# Altium footprint library Altium-IC.PcbLib: 56 footprints (part 1 of 4)
Each footprint in its own frame and in the unit in brackets; x right, y up, seen from the top. Pads: shape width x height; smd on the part's side, far side on the other; paste and mask are expansions set on the pad; w line width, h text height; cw(c..) or ccw(c..) is an arc to the next point about the centre after c.
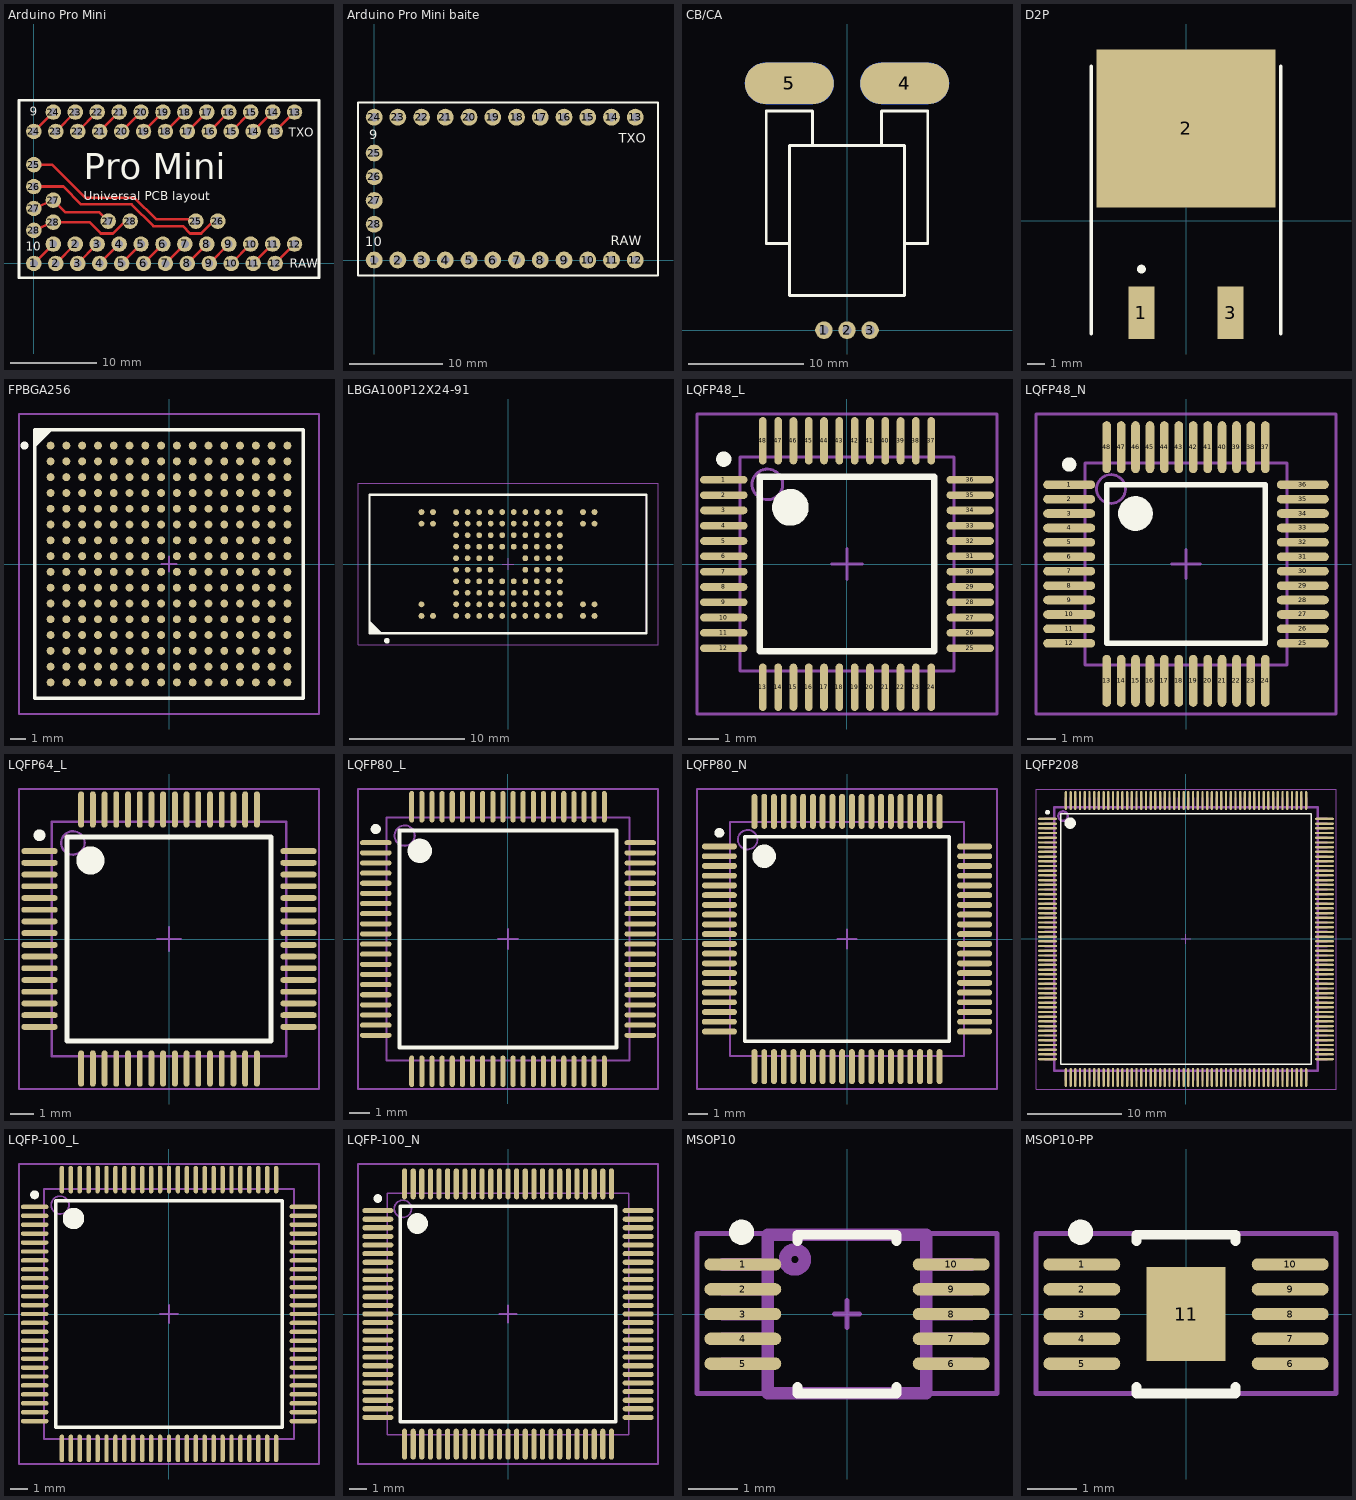
[diagram p0: the footprints below, top view; thin cyan lines are the x and y axes]

## Arduino Pro Mini [mm]
pads (58):
  round 1.8 hole 0.9: 1(0,0) 1(2.25,2.25) 2(2.54,0) 2(4.79,2.25) 3(5.08,0) 3(7.33,2.25) 4(7.62,0) 4(9.87,2.25) 5(10.16,0) 5(12.41,2.25) 6(12.7,0) 6(14.95,2.25) 7(15.24,0) 7(17.49,2.25) 8(17.78,0) 8(20.03,2.25) 9(20.32,0) 9(22.57,2.25) 10(22.86,0) 10(25.11,2.25) 11(25.4,0) 11(27.65,2.25) 12(27.94,0) 12(30.19,2.25) 13(27.94,15.29) 13(30.19,17.54) 14(25.4,15.29) 14(27.65,17.54) 15(22.86,15.29) 15(25.11,17.54) 16(20.32,15.29) 16(22.57,17.54) 17(17.78,15.29) 17(20.03,17.54) 18(15.24,15.29) 18(17.49,17.54) 19(12.7,15.29) 19(14.95,17.54) 20(10.16,15.29) 20(12.41,17.54) 21(7.62,15.29) 21(9.87,17.54) 22(5.08,15.29) 22(7.33,17.54) 23(2.54,15.29) 23(4.79,17.54) 24(0,15.29) 24(2.25,17.54) 25(0,11.45) 25(18.76,4.91) 26(0,8.91) 26(21.3,4.91) 27(0,6.37) 27(2.25,7.33) 27(8.6,4.91) 28(0,3.83) 28(2.25,4.79) 28(11.14,4.91)
Top Layer:
  lines w0.3: 0,0 2.25,2.25 ; 0,3.83 2.25,4.79 6.435,4.79 7.75,3.475 9.15,3.475 10.585,4.91 11.14,4.91 ; 0,6.37 2.25,7.33 3.63,5.95 7.56,5.95 8.6,4.91 ; 0,8.91 3.415,8.91 5.475,6.85 11.325,6.85 13.849,4.326 17.109,4.326 17.249,4.326 18.1,3.475 19.375,3.475 20.81,4.91 21.3,4.91 ; 0,11.45 2.1,11.45 5.953,7.597 11.678,7.597 14.15,5.125 18.545,5.125 18.76,4.91 ; 0,15.29 2.25,17.54 ; 2.54,0 4.79,2.25 ; 2.54,15.29 4.79,17.54 ; 5.08,0 7.33,2.25 ; 5.08,15.29 7.33,17.54 ; 7.62,0 9.87,2.25 ; 7.62,15.29 9.87,17.54 ; 10.16,0 12.41,2.25 ; 10.16,15.29 12.41,17.54 ; 12.7,0 14.95,2.25 ; 12.7,15.29 14.95,17.54 ; 15.24,0 17.49,2.25 ; 15.24,15.29 17.49,17.54 ; 17.78,0 20.03,2.25 ; 17.78,15.29 20.03,17.54 ; 20.32,0 22.57,2.25 ; 20.32,15.29 22.57,17.54 ; 22.86,0 25.11,2.25 ; 22.86,15.29 25.11,17.54 ; 25.4,0 27.65,2.25 ; 25.4,15.29 27.65,17.54 ; 27.94,0 30.19,2.25 ; 27.94,15.29 30.19,17.54
Top Overlay:
  lines w0.3: -1.725,-1.675 -1.725,18.925 33.025,18.925 33.025,-1.675 -1.725,-1.675
  text "Universal PCB layout" at 5.8,7.325 h1
  text "TXO" at 29.5,14.675 h1
  text "9" at -0.475,17.125 h1
  text "Pro Mini" at 5.8,9.75 h3
  text "RAW" at 29.625,-0.525 h1
  text "10" at -0.925,1.475 h1
3D body: height 15, standoff 0.5, extent -1.65,-1.675 33,18.825

## Arduino Pro Mini baite [mm]
pads (28):
  round 1.8 hole 0.9: 1(0,0) 2(2.54,0) 3(5.08,0) 4(7.62,0) 5(10.16,0) 6(12.7,0) 7(15.24,0) 8(17.78,0) 9(20.32,0) 10(22.86,0) 11(25.4,0) 12(27.94,0) 13(27.94,15.29) 14(25.4,15.29) 15(22.86,15.29) 16(20.32,15.29) 17(17.78,15.29) 18(15.24,15.29) 19(12.7,15.29) 20(10.16,15.29) 21(7.62,15.29) 22(5.08,15.29) 23(2.54,15.29) 24(0,15.29) 25(0,11.45) 26(0,8.91) 27(0,6.37) 28(0,3.83)
Top Overlay:
  lines w0.2: -1.725,-1.675 30.375,-1.675 30.375,16.875 -1.725,16.875 -1.725,-1.675
  text "10" at -0.925,1.475 h1
  text "RAW" at 25.3,1.6 h1
  text "9" at -0.5,12.925 h1
  text "TXO" at 26.15,12.575 h1

## CB/CA [mm] "Allegro Current sensor"
pads (7):
  round 1.524 hole 0.8: 1(-2,0) 2(0,0) 3(2,0)
  oval 7.7x3.6 smd: 4(5,21.4) 5(-5,21.4)
  oval 7.7x3.6 smd far side: 4(5,21.4) 5(-5,21.4)
Top Overlay:
  lines w0.254: -5,7.5 -7,7.5 -7,19 -3,19 -3,16 ; 3,16 3,19 7,19 7,7.5 5,7.5 ; -5,3 -5,16 5,16 5,3 -5,3
Mechanical 1:
  lines w0.254: -7.05,20.6 cw(c-7.05,21.4) -7.05,22.2 ; -7.025,20.6 -2.925,20.6 ccw(c-2.925,21.4) -2.925,22.2 -7.025,22.2 ; 2.925,20.6 cw(c2.925,21.4) 2.925,22.2 ; 2.95,20.6 7.05,20.6 ccw(c7.05,21.4) 7.05,22.2 2.95,22.2
3D body: height 7, standoff 0, extent -5,3 5,16

## D2P [mm]
height 4.62
pads (3):
  rect 1.5x3 smd: 1(-2.54,-5.25) 3(2.54,-5.25)
  rect 10.2x9 smd: 2(0,5.25)
Top Overlay:
  circle w0.25: c-2.54,-2.765 r0.125
  lines w0.2: -5.4,-6.45 -5.4,8.8 ; 5.4,-6.45 5.4,8.8
3D body: height 4.6, standoff -0.01, extent -5.2,-6.4 5.2,9.45

## FPBGA256 [mm] "256-Ball Fine Pitch Ball Grid Array (FG256)"
height 1.56
pads (256):
  round 0.5 smd: A1(-7.5,7.5) A2(-6.5,7.5) A3(-5.5,7.5) A4(-4.5,7.5) A5(-3.5,7.5) A6(-2.5,7.5) A7(-1.5,7.5) A8(-0.5,7.5) A9(0.5,7.5) A10(1.5,7.5) A11(2.5,7.5) A12(3.5,7.5) A13(4.5,7.5) A14(5.5,7.5) A15(6.5,7.5) A16(7.5,7.5) B1(-7.5,6.5) B2(-6.5,6.5) B3(-5.5,6.5) B4(-4.5,6.5) B5(-3.5,6.5) B6(-2.5,6.5) B7(-1.5,6.5) B8(-0.5,6.5) B9(0.5,6.5) B10(1.5,6.5) B11(2.5,6.5) B12(3.5,6.5) B13(4.5,6.5) B14(5.5,6.5) B15(6.5,6.5) B16(7.5,6.5) C1(-7.5,5.5) C2(-6.5,5.5) C3(-5.5,5.5) C4(-4.5,5.5) C5(-3.5,5.5) C6(-2.5,5.5) C7(-1.5,5.5) C8(-0.5,5.5) C9(0.5,5.5) C10(1.5,5.5) C11(2.5,5.5) C12(3.5,5.5) C13(4.5,5.5) C14(5.5,5.5) C15(6.5,5.5) C16(7.5,5.5) D1(-7.5,4.5) D2(-6.5,4.5) D3(-5.5,4.5) D4(-4.5,4.5) D5(-3.5,4.5) D6(-2.5,4.5) D7(-1.5,4.5) D8(-0.5,4.5) D9(0.5,4.5) D10(1.5,4.5) D11(2.5,4.5) D12(3.5,4.5) D13(4.5,4.5) D14(5.5,4.5) D15(6.5,4.5) D16(7.5,4.5) E1(-7.5,3.5) E2(-6.5,3.5) E3(-5.5,3.5) E4(-4.5,3.5) E5(-3.5,3.5) E6(-2.5,3.5) E7(-1.5,3.5) E8(-0.5,3.5) E9(0.5,3.5) E10(1.5,3.5) E11(2.5,3.5) E12(3.5,3.5) E13(4.5,3.5) E14(5.5,3.5) E15(6.5,3.5) E16(7.5,3.5) F1(-7.5,2.5) F2(-6.5,2.5) F3(-5.5,2.5) F4(-4.5,2.5) F5(-3.5,2.5) F6(-2.5,2.5) F7(-1.5,2.5) F8(-0.5,2.5) F9(0.5,2.5) F10(1.5,2.5) F11(2.5,2.5) F12(3.5,2.5) F13(4.5,2.5) F14(5.5,2.5) F15(6.5,2.5) F16(7.5,2.5) G1(-7.5,1.5) G2(-6.5,1.5) G3(-5.5,1.5) G4(-4.5,1.5) G5(-3.5,1.5) G6(-2.5,1.5) G7(-1.5,1.5) G8(-0.5,1.5) G9(0.5,1.5) G10(1.5,1.5) G11(2.5,1.5) G12(3.5,1.5) G13(4.5,1.5) G14(5.5,1.5) G15(6.5,1.5) G16(7.5,1.5) H1(-7.5,0.5) H2(-6.5,0.5) H3(-5.5,0.5) H4(-4.5,0.5) H5(-3.5,0.5) H6(-2.5,0.5) H7(-1.5,0.5) H8(-0.5,0.5) H9(0.5,0.5) H10(1.5,0.5) H11(2.5,0.5) H12(3.5,0.5) H13(4.5,0.5) H14(5.5,0.5) H15(6.5,0.5) H16(7.5,0.5) J1(-7.5,-0.5) J2(-6.5,-0.5) J3(-5.5,-0.5) J4(-4.5,-0.5) J5(-3.5,-0.5) J6(-2.5,-0.5) J7(-1.5,-0.5) J8(-0.5,-0.5) J9(0.5,-0.5) J10(1.5,-0.5) J11(2.5,-0.5) J12(3.5,-0.5) J13(4.5,-0.5) J14(5.5,-0.5) J15(6.5,-0.5) J16(7.5,-0.5) K1(-7.5,-1.5) K2(-6.5,-1.5) K3(-5.5,-1.5) K4(-4.5,-1.5) K5(-3.5,-1.5) K6(-2.5,-1.5) K7(-1.5,-1.5) K8(-0.5,-1.5) K9(0.5,-1.5) K10(1.5,-1.5) K11(2.5,-1.5) K12(3.5,-1.5) K13(4.5,-1.5) K14(5.5,-1.5) K15(6.5,-1.5) K16(7.5,-1.5) L1(-7.5,-2.5) L2(-6.5,-2.5) L3(-5.5,-2.5) L4(-4.5,-2.5) L5(-3.5,-2.5) L6(-2.5,-2.5) L7(-1.5,-2.5) L8(-0.5,-2.5) L9(0.5,-2.5) L10(1.5,-2.5) L11(2.5,-2.5) L12(3.5,-2.5) L13(4.5,-2.5) L14(5.5,-2.5) L15(6.5,-2.5) L16(7.5,-2.5) M1(-7.5,-3.5) M2(-6.5,-3.5) M3(-5.5,-3.5) M4(-4.5,-3.5) M5(-3.5,-3.5) M6(-2.5,-3.5) M7(-1.5,-3.5) M8(-0.5,-3.5) M9(0.5,-3.5) M10(1.5,-3.5) M11(2.5,-3.5) M12(3.5,-3.5) M13(4.5,-3.5) M14(5.5,-3.5) M15(6.5,-3.5) M16(7.5,-3.5) N1(-7.5,-4.5) N2(-6.5,-4.5) N3(-5.5,-4.5) N4(-4.5,-4.5) N5(-3.5,-4.5) N6(-2.5,-4.5) N7(-1.5,-4.5) N8(-0.5,-4.5) N9(0.5,-4.5) N10(1.5,-4.5) N11(2.5,-4.5) N12(3.5,-4.5) N13(4.5,-4.5) N14(5.5,-4.5) N15(6.5,-4.5) N16(7.5,-4.5) P1(-7.5,-5.5) P2(-6.5,-5.5) P3(-5.5,-5.5) P4(-4.5,-5.5) P5(-3.5,-5.5) P6(-2.5,-5.5) P7(-1.5,-5.5) P8(-0.5,-5.5) P9(0.5,-5.5) P10(1.5,-5.5) P11(2.5,-5.5) P12(3.5,-5.5) P13(4.5,-5.5) P14(5.5,-5.5) P15(6.5,-5.5) P16(7.5,-5.5) R1(-7.5,-6.5) R2(-6.5,-6.5) R3(-5.5,-6.5) R4(-4.5,-6.5) R5(-3.5,-6.5) R6(-2.5,-6.5) R7(-1.5,-6.5) R8(-0.5,-6.5) R9(0.5,-6.5) R10(1.5,-6.5) R11(2.5,-6.5) R12(3.5,-6.5) R13(4.5,-6.5) R14(5.5,-6.5) R15(6.5,-6.5) R16(7.5,-6.5) T1(-7.5,-7.5) T2(-6.5,-7.5) T3(-5.5,-7.5) T4(-4.5,-7.5) T5(-3.5,-7.5) T6(-2.5,-7.5) T7(-1.5,-7.5) T8(-0.5,-7.5) T9(0.5,-7.5) T10(1.5,-7.5) T11(2.5,-7.5) T12(3.5,-7.5) T13(4.5,-7.5) T14(5.5,-7.5) T15(6.5,-7.5) T16(7.5,-7.5)
Top Overlay:
  circle w0.25: c-9.15,7.5 r0.125
  region: -7.5,8.5 -8.5,7.5 -8.5,8.5
  lines w0.2: -8.5,7.5 -7.5,8.5 ; -8.5,-8.5 8.5,-8.5 8.5,8.5 -8.5,8.5 -8.5,-8.5
Mechanical 13:
  lines w0.1: -8.5,-8.5 8.5,-8.5 8.5,8.5 -8.5,8.5 -8.5,-8.5
Mechanical 15:
  lines w0.1: -0.5,0 0.5,0 ; 0,-0.5 0,0.5 ; -9.5,-9.5 9.5,-9.5 9.5,9.5 -9.5,9.5 -9.5,-9.5
3D body: height 1.76, standoff 0, extent -8.5,-8.5 8.5,8.5

## LBGA100P12X24-91 [mm] "Low Profile BGA, 91-Leads, Body 12x24mm, Pitch 1mm"
height 1.6
pads (111):
  round 0.5 smd: A1(-7.5,-4.5) A2(-7.5,-3.5) A9(-7.5,3.5) A10(-7.5,4.5) B1(-6.5,-4.5) B9(-6.5,3.5) B10(-6.5,4.5) D1(-4.5,-4.5) D2(-4.5,-3.5) D3(-4.5,-2.5) D4(-4.5,-1.5) D5(-4.5,-0.5) D6(-4.5,0.5) D7(-4.5,1.5) D8(-4.5,2.5) D9(-4.5,3.5) D10(-4.5,4.5) E1(-3.5,-4.5) E2(-3.5,-3.5) E3(-3.5,-2.5) E4(-3.5,-1.5) E5(-3.5,-0.5) E6(-3.5,0.5) E7(-3.5,1.5) E8(-3.5,2.5) E9(-3.5,3.5) E10(-3.5,4.5) F1(-2.5,-4.5) F2(-2.5,-3.5) F3(-2.5,-2.5) F4(-2.5,-1.5) F5(-2.5,-0.5) F6(-2.5,0.5) F7(-2.5,1.5) F8(-2.5,2.5) F9(-2.5,3.5) F10(-2.5,4.5) G1(-1.5,-4.5) G2(-1.5,-3.5) G3(-1.5,-2.5) G4(-1.5,-1.5) G5(-1.5,-0.5) G6(-1.5,0.5) G7(-1.5,1.5) G8(-1.5,2.5) G9(-1.5,3.5) G10(-1.5,4.5) H1(-0.5,-4.5) H2(-0.5,-3.5) H3(-0.5,-2.5) H4(-0.5,-1.5) H7(-0.5,1.5) H8(-0.5,2.5) H9(-0.5,3.5) H10(-0.5,4.5) J1(0.5,-4.5) J2(0.5,-3.5) J3(0.5,-2.5) J4(0.5,-1.5) J7(0.5,1.5) J8(0.5,2.5) J9(0.5,3.5) J10(0.5,4.5) K1(1.5,-4.5) K2(1.5,-3.5) K3(1.5,-2.5) K4(1.5,-1.5) K5(1.5,-0.5) K6(1.5,0.5) K7(1.5,1.5) K8(1.5,2.5) K9(1.5,3.5) K10(1.5,4.5) L1(2.5,-4.5) L2(2.5,-3.5) L3(2.5,-2.5) L4(2.5,-1.5) L5(2.5,-0.5) L6(2.5,0.5) L7(2.5,1.5) L8(2.5,2.5) L9(2.5,3.5) L10(2.5,4.5) M1(3.5,-4.5) M2(3.5,-3.5) M3(3.5,-2.5) M4(3.5,-1.5) M5(3.5,-0.5) M6(3.5,0.5) M7(3.5,1.5) M8(3.5,2.5) M9(3.5,3.5) M10(3.5,4.5) N1(4.5,-4.5) N2(4.5,-3.5) N3(4.5,-2.5) N4(4.5,-1.5) N5(4.5,-0.5) N6(4.5,0.5) N7(4.5,1.5) N8(4.5,2.5) N9(4.5,3.5) N10(4.5,4.5) R1(6.5,-4.5) R2(6.5,-3.5) R9(6.5,3.5) R10(6.5,4.5) T1(7.5,-4.5) T2(7.5,-3.5) T9(7.5,3.5) T10(7.5,4.5)
Top Overlay:
  circle w0.25: c-10.5,-6.65 r0.125
  region: -12,-5 -11,-6 -12,-6
  lines w0.2: -12,-5 -11,-6 ; -12,-6 12,-6 12,6 -12,6 -12,-6
Mechanical 13:
  lines w0.1: -12,-6 12,-6 12,6 -12,6 -12,-6
Mechanical 15:
  lines w0.1: -0.5,0 0.5,0 ; 0,-0.5 0,0.5 ; -13,-7 13,-7 13,7 -13,7 -13,-7
3D body: height 1.6, standoff 0.4, extent -12,-6 12,6

## LQFP48_L [mm] "Thin QFP, 48-Leads, Body 7x7mm, Pitch 0.5mm, IPC High Density"
height 1.6
pads (48):
  oval 1.55x0.25 smd: 1(-4.025,2.75) 2(-4.025,2.25) 3(-4.025,1.75) 4(-4.025,1.25) 5(-4.025,0.75) 6(-4.025,0.25) 7(-4.025,-0.25) 8(-4.025,-0.75) 9(-4.025,-1.25) 10(-4.025,-1.75) 11(-4.025,-2.25) 12(-4.025,-2.75) 25(4.025,-2.75) 26(4.025,-2.25) 27(4.025,-1.75) 28(4.025,-1.25) 29(4.025,-0.75) 30(4.025,-0.25) 31(4.025,0.25) 32(4.025,0.75) 33(4.025,1.25) 34(4.025,1.75) 35(4.025,2.25) 36(4.025,2.75)
  oval 0.25x1.55 smd: 13(-2.75,-4.025) 14(-2.25,-4.025) 15(-1.75,-4.025) 16(-1.25,-4.025) 17(-0.75,-4.025) 18(-0.25,-4.025) 19(0.25,-4.025) 20(0.75,-4.025) 21(1.25,-4.025) 22(1.75,-4.025) 23(2.25,-4.025) 24(2.75,-4.025) 37(2.75,4.025) 38(2.25,4.025) 39(1.75,4.025) 40(1.25,4.025) 41(0.75,4.025) 42(0.25,4.025) 43(-0.25,4.025) 44(-0.75,4.025) 45(-1.25,4.025) 46(-1.75,4.025) 47(-2.25,4.025) 48(-2.75,4.025)
Top Overlay:
  circle w0.6: c-1.85,1.85 r0.3
  circle w0.25: c-4.025,3.425 r0.125
  lines w0.2: -2.85,-2.85 2.85,-2.85 2.85,2.85 -2.85,2.85 -2.85,-2.85
Mechanical 13:
  circle w0.1: c-2.6,2.6 r0.5
  lines w0.1: -3.5,-3.5 3.5,-3.5 3.5,3.5 -3.5,3.5 -3.5,-3.5
Mechanical 15:
  lines w0.1: -0.5,0 0.5,0 ; 0,-0.5 0,0.5 ; -4.9,-4.9 4.9,-4.9 4.9,4.9 -4.9,4.9 -4.9,-4.9
3D body: height 1.6, standoff 0, extent -3.5,-3.5 3.5,3.5

## LQFP48_N [mm] "Thin QFP, 48-Leads, Body 7x7mm, Pitch 0.5mm, IPC Medium Density"
height 1.6
pads (48):
  oval 1.8x0.3 smd: 1(-4.05,2.75) 2(-4.05,2.25) 3(-4.05,1.75) 4(-4.05,1.25) 5(-4.05,0.75) 6(-4.05,0.25) 7(-4.05,-0.25) 8(-4.05,-0.75) 9(-4.05,-1.25) 10(-4.05,-1.75) 11(-4.05,-2.25) 12(-4.05,-2.75) 25(4.05,-2.75) 26(4.05,-2.25) 27(4.05,-1.75) 28(4.05,-1.25) 29(4.05,-0.75) 30(4.05,-0.25) 31(4.05,0.25) 32(4.05,0.75) 33(4.05,1.25) 34(4.05,1.75) 35(4.05,2.25) 36(4.05,2.75)
  oval 0.3x1.8 smd: 13(-2.75,-4.05) 14(-2.25,-4.05) 15(-1.75,-4.05) 16(-1.25,-4.05) 17(-0.75,-4.05) 18(-0.25,-4.05) 19(0.25,-4.05) 20(0.75,-4.05) 21(1.25,-4.05) 22(1.75,-4.05) 23(2.25,-4.05) 24(2.75,-4.05) 37(2.75,4.05) 38(2.25,4.05) 39(1.75,4.05) 40(1.25,4.05) 41(0.75,4.05) 42(0.25,4.05) 43(-0.25,4.05) 44(-0.75,4.05) 45(-1.25,4.05) 46(-1.75,4.05) 47(-2.25,4.05) 48(-2.75,4.05)
Top Overlay:
  circle w0.25: c-4.05,3.45 r0.125
  circle w0.6: c-1.75,1.75 r0.3
  lines w0.2: -2.75,-2.75 -2.75,2.75 2.75,2.75 2.75,-2.75 -2.75,-2.75
Mechanical 13:
  circle w0.1: c-2.6,2.6 r0.5
  lines w0.1: -3.5,-3.5 -3.5,3.5 3.5,3.5 3.5,-3.5 -3.5,-3.5
  text ".Designator" at -2.175,0.675 h2
Mechanical 15:
  lines w0.1: -0.5,0 0.5,0 ; 0,-0.5 0,0.5 ; -5.2,-5.2 -5.2,5.2 5.2,5.2 5.2,-5.2 -5.2,-5.2
3D body: height 1.6, standoff 0, extent -3.5,-3.5 3.5,3.5

## LQFP64_L [mm] "Thin QFP, 64-Leads, Body 10x10mm, Pitch 0.5mm, IPC High Density"
height 1.6
pads (64):
  oval 1.55x0.25 smd: 1(-5.525,3.75) 2(-5.525,3.25) 3(-5.525,2.75) 4(-5.525,2.25) 5(-5.525,1.75) 6(-5.525,1.25) 7(-5.525,0.75) 8(-5.525,0.25) 9(-5.525,-0.25) 10(-5.525,-0.75) 11(-5.525,-1.25) 12(-5.525,-1.75) 13(-5.525,-2.25) 14(-5.525,-2.75) 15(-5.525,-3.25) 16(-5.525,-3.75) 33(5.525,-3.75) 34(5.525,-3.25) 35(5.525,-2.75) 36(5.525,-2.25) 37(5.525,-1.75) 38(5.525,-1.25) 39(5.525,-0.75) 40(5.525,-0.25) 41(5.525,0.25) 42(5.525,0.75) 43(5.525,1.25) 44(5.525,1.75) 45(5.525,2.25) 46(5.525,2.75) 47(5.525,3.25) 48(5.525,3.75)
  oval 0.25x1.55 smd: 17(-3.75,-5.525) 18(-3.25,-5.525) 19(-2.75,-5.525) 20(-2.25,-5.525) 21(-1.75,-5.525) 22(-1.25,-5.525) 23(-0.75,-5.525) 24(-0.25,-5.525) 25(0.25,-5.525) 26(0.75,-5.525) 27(1.25,-5.525) 28(1.75,-5.525) 29(2.25,-5.525) 30(2.75,-5.525) 31(3.25,-5.525) 32(3.75,-5.525) 49(3.75,5.525) 50(3.25,5.525) 51(2.75,5.525) 52(2.25,5.525) 53(1.75,5.525) 54(1.25,5.525) 55(0.75,5.525) 56(0.25,5.525) 57(-0.25,5.525) 58(-0.75,5.525) 59(-1.25,5.525) 60(-1.75,5.525) 61(-2.25,5.525) 62(-2.75,5.525) 63(-3.25,5.525) 64(-3.75,5.525)
Top Overlay:
  circle w0.6: c-3.35,3.35 r0.3
  circle w0.25: c-5.525,4.425 r0.125
  lines w0.2: -4.35,-4.35 4.35,-4.35 4.35,4.35 -4.35,4.35 -4.35,-4.35
Mechanical 13:
  circle w0.1: c-4.1,4.1 r0.5
  lines w0.1: -5,-5 5,-5 5,5 -5,5 -5,-5
Mechanical 15:
  lines w0.1: -0.5,0 0.5,0 ; 0,-0.5 0,0.5 ; -6.4,-6.4 6.4,-6.4 6.4,6.4 -6.4,6.4 -6.4,-6.4
3D body: height 1.63, standoff 0, extent -6.072,-6.075 6.072,6.069

## LQFP80_L [mm] "Thin QFP, 80-Leads, Body 12x12mm, Pitch 0.5mm, IPC High Density"
height 1.6
pads (80):
  oval 1.55x0.25 smd: 1(-6.525,4.75) 2(-6.525,4.25) 3(-6.525,3.75) 4(-6.525,3.25) 5(-6.525,2.75) 6(-6.525,2.25) 7(-6.525,1.75) 8(-6.525,1.25) 9(-6.525,0.75) 10(-6.525,0.25) 11(-6.525,-0.25) 12(-6.525,-0.75) 13(-6.525,-1.25) 14(-6.525,-1.75) 15(-6.525,-2.25) 16(-6.525,-2.75) 17(-6.525,-3.25) 18(-6.525,-3.75) 19(-6.525,-4.25) 20(-6.525,-4.75) 41(6.525,-4.75) 42(6.525,-4.25) 43(6.525,-3.75) 44(6.525,-3.25) 45(6.525,-2.75) 46(6.525,-2.25) 47(6.525,-1.75) 48(6.525,-1.25) 49(6.525,-0.75) 50(6.525,-0.25) 51(6.525,0.25) 52(6.525,0.75) 53(6.525,1.25) 54(6.525,1.75) 55(6.525,2.25) 56(6.525,2.75) 57(6.525,3.25) 58(6.525,3.75) 59(6.525,4.25) 60(6.525,4.75)
  oval 0.25x1.55 smd: 21(-4.75,-6.525) 22(-4.25,-6.525) 23(-3.75,-6.525) 24(-3.25,-6.525) 25(-2.75,-6.525) 26(-2.25,-6.525) 27(-1.75,-6.525) 28(-1.25,-6.525) 29(-0.75,-6.525) 30(-0.25,-6.525) 31(0.25,-6.525) 32(0.75,-6.525) 33(1.25,-6.525) 34(1.75,-6.525) 35(2.25,-6.525) 36(2.75,-6.525) 37(3.25,-6.525) 38(3.75,-6.525) 39(4.25,-6.525) 40(4.75,-6.525) 61(4.75,6.525) 62(4.25,6.525) 63(3.75,6.525) 64(3.25,6.525) 65(2.75,6.525) 66(2.25,6.525) 67(1.75,6.525) 68(1.25,6.525) 69(0.75,6.525) 70(0.25,6.525) 71(-0.25,6.525) 72(-0.75,6.525) 73(-1.25,6.525) 74(-1.75,6.525) 75(-2.25,6.525) 76(-2.75,6.525) 77(-3.25,6.525) 78(-3.75,6.525) 79(-4.25,6.525) 80(-4.75,6.525)
Top Overlay:
  circle w0.6: c-4.35,4.35 r0.3
  circle w0.25: c-6.525,5.425 r0.125
  lines w0.2: -5.35,-5.35 5.35,-5.35 5.35,5.35 -5.35,5.35 -5.35,-5.35
Mechanical 13:
  circle w0.1: c-5.1,5.1 r0.5
  lines w0.1: -6,-6 6,-6 6,6 -6,6 -6,-6
Mechanical 15:
  lines w0.1: -0.5,0 0.5,0 ; 0,-0.5 0,0.5 ; -7.4,-7.4 7.4,-7.4 7.4,7.4 -7.4,7.4 -7.4,-7.4
3D body: height 1.6, standoff 0, extent -6,-6 6,6

## LQFP80_N [mm] "Thin QFP, 80-Leads, Body 12x12mm, Pitch 0.5mm, IPC Medium Density"
height 1.6
pads (80):
  oval 1.8x0.3 smd: 1(-6.55,4.75) 2(-6.55,4.25) 3(-6.55,3.75) 4(-6.55,3.25) 5(-6.55,2.75) 6(-6.55,2.25) 7(-6.55,1.75) 8(-6.55,1.25) 9(-6.55,0.75) 10(-6.55,0.25) 11(-6.55,-0.25) 12(-6.55,-0.75) 13(-6.55,-1.25) 14(-6.55,-1.75) 15(-6.55,-2.25) 16(-6.55,-2.75) 17(-6.55,-3.25) 18(-6.55,-3.75) 19(-6.55,-4.25) 20(-6.55,-4.75) 41(6.55,-4.75) 42(6.55,-4.25) 43(6.55,-3.75) 44(6.55,-3.25) 45(6.55,-2.75) 46(6.55,-2.25) 47(6.55,-1.75) 48(6.55,-1.25) 49(6.55,-0.75) 50(6.55,-0.25) 51(6.55,0.25) 52(6.55,0.75) 53(6.55,1.25) 54(6.55,1.75) 55(6.55,2.25) 56(6.55,2.75) 57(6.55,3.25) 58(6.55,3.75) 59(6.55,4.25) 60(6.55,4.75)
  oval 0.3x1.8 smd: 21(-4.75,-6.55) 22(-4.25,-6.55) 23(-3.75,-6.55) 24(-3.25,-6.55) 25(-2.75,-6.55) 26(-2.25,-6.55) 27(-1.75,-6.55) 28(-1.25,-6.55) 29(-0.75,-6.55) 30(-0.25,-6.55) 31(0.25,-6.55) 32(0.75,-6.55) 33(1.25,-6.55) 34(1.75,-6.55) 35(2.25,-6.55) 36(2.75,-6.55) 37(3.25,-6.55) 38(3.75,-6.55) 39(4.25,-6.55) 40(4.75,-6.55) 61(4.75,6.55) 62(4.25,6.55) 63(3.75,6.55) 64(3.25,6.55) 65(2.75,6.55) 66(2.25,6.55) 67(1.75,6.55) 68(1.25,6.55) 69(0.75,6.55) 70(0.25,6.55) 71(-0.25,6.55) 72(-0.75,6.55) 73(-1.25,6.55) 74(-1.75,6.55) 75(-2.25,6.55) 76(-2.75,6.55) 77(-3.25,6.55) 78(-3.75,6.55) 79(-4.25,6.55) 80(-4.75,6.55)
Top Overlay:
  circle w0.6: c-4.25,4.25 r0.3
  circle w0.25: c-6.55,5.45 r0.125
  lines w0.2: -5.25,-5.25 5.25,-5.25 5.25,5.25 -5.25,5.25 -5.25,-5.25
Mechanical 13:
  circle w0.1: c-5.1,5.1 r0.5
  lines w0.1: -6,-6 6,-6 6,6 -6,6 -6,-6
Mechanical 15:
  lines w0.1: -0.5,0 0.5,0 ; 0,-0.5 0,0.5 ; -7.7,-7.7 7.7,-7.7 7.7,7.7 -7.7,7.7 -7.7,-7.7
3D body: height 1.6, standoff 0, extent -6,-6 6,6

## LQFP208 [mm] "TSQFP, 208-Leads, Body 30,6x30,6mm (max), Pitch 0,50mm, IPC Medium Density"
height 1.6
pads (208):
  oval 2x0.25 smd: 1(-14.7,12.75) 2(-14.7,12.25) 3(-14.7,11.75) 4(-14.7,11.25) 5(-14.7,10.75) 6(-14.7,10.25) 7(-14.7,9.75) 8(-14.7,9.25) 9(-14.7,8.75) 10(-14.7,8.25) 11(-14.7,7.75) 12(-14.7,7.25) 13(-14.7,6.75) 14(-14.7,6.25) 15(-14.7,5.75) 16(-14.7,5.25) 17(-14.7,4.75) 18(-14.7,4.25) 19(-14.7,3.75) 20(-14.7,3.25) 21(-14.7,2.75) 22(-14.7,2.25) 23(-14.7,1.75) 24(-14.7,1.25) 25(-14.7,0.75) 26(-14.7,0.25) 27(-14.7,-0.25) 28(-14.7,-0.75) 29(-14.7,-1.25) 30(-14.7,-1.75) 31(-14.7,-2.25) 32(-14.7,-2.75) 33(-14.7,-3.25) 34(-14.7,-3.75) 35(-14.7,-4.25) 36(-14.7,-4.75) 37(-14.7,-5.25) 38(-14.7,-5.75) 39(-14.7,-6.25) 40(-14.7,-6.75) 41(-14.7,-7.25) 42(-14.7,-7.75) 43(-14.7,-8.25) 44(-14.7,-8.75) 45(-14.7,-9.25) 46(-14.7,-9.75) 47(-14.7,-10.25) 48(-14.7,-10.75) 49(-14.7,-11.25) 50(-14.7,-11.75) 51(-14.7,-12.25) 52(-14.7,-12.75) 105(14.7,-12.75) 106(14.7,-12.25) 107(14.7,-11.75) 108(14.7,-11.25) 109(14.7,-10.75) 110(14.7,-10.25) 111(14.7,-9.75) 112(14.7,-9.25) 113(14.7,-8.75) 114(14.7,-8.25) 115(14.7,-7.75) 116(14.7,-7.25) 117(14.7,-6.75) 118(14.7,-6.25) 119(14.7,-5.75) 120(14.7,-5.25) 121(14.7,-4.75) 122(14.7,-4.25) 123(14.7,-3.75) 124(14.7,-3.25) 125(14.7,-2.75) 126(14.7,-2.25) 127(14.7,-1.75) 128(14.7,-1.25) 129(14.7,-0.75) 130(14.7,-0.25) 131(14.7,0.25) 132(14.7,0.75) 133(14.7,1.25) 134(14.7,1.75) 135(14.7,2.25) 136(14.7,2.75) 137(14.7,3.25) 138(14.7,3.75) 139(14.7,4.25) 140(14.7,4.75) 141(14.7,5.25) 142(14.7,5.75) 143(14.7,6.25) 144(14.7,6.75) 145(14.7,7.25) 146(14.7,7.75) 147(14.7,8.25) 148(14.7,8.75) 149(14.7,9.25) 150(14.7,9.75) 151(14.7,10.25) 152(14.7,10.75) 153(14.7,11.25) 154(14.7,11.75) 155(14.7,12.25) 156(14.7,12.75)
  oval 0.25x2 smd: 53(-12.75,-14.7) 54(-12.25,-14.7) 55(-11.75,-14.7) 56(-11.25,-14.7) 57(-10.75,-14.7) 58(-10.25,-14.7) 59(-9.75,-14.7) 60(-9.25,-14.7) 61(-8.75,-14.7) 62(-8.25,-14.7) 63(-7.75,-14.7) 64(-7.25,-14.7) 65(-6.75,-14.7) 66(-6.25,-14.7) 67(-5.75,-14.7) 68(-5.25,-14.7) 69(-4.75,-14.7) 70(-4.25,-14.7) 71(-3.75,-14.7) 72(-3.25,-14.7) 73(-2.75,-14.7) 74(-2.25,-14.7) 75(-1.75,-14.7) 76(-1.25,-14.7) 77(-0.75,-14.7) 78(-0.25,-14.7) 79(0.25,-14.7) 80(0.75,-14.7) 81(1.25,-14.7) 82(1.75,-14.7) 83(2.25,-14.7) 84(2.75,-14.7) 85(3.25,-14.7) 86(3.75,-14.7) 87(4.25,-14.7) 88(4.75,-14.7) 89(5.25,-14.7) 90(5.75,-14.7) 91(6.25,-14.7) 92(6.75,-14.7) 93(7.25,-14.7) 94(7.75,-14.7) 95(8.25,-14.7) 96(8.75,-14.7) 97(9.25,-14.7) 98(9.75,-14.7) 99(10.25,-14.7) 100(10.75,-14.7) 101(11.25,-14.7) 102(11.75,-14.7) 103(12.25,-14.7) 104(12.75,-14.7) 157(12.75,14.7) 158(12.25,14.7) 159(11.75,14.7) 160(11.25,14.7) 161(10.75,14.7) 162(10.25,14.7) 163(9.75,14.7) 164(9.25,14.7) 165(8.75,14.7) 166(8.25,14.7) 167(7.75,14.7) 168(7.25,14.7) 169(6.75,14.7) 170(6.25,14.7) 171(5.75,14.7) 172(5.25,14.7) 173(4.75,14.7) 174(4.25,14.7) 175(3.75,14.7) 176(3.25,14.7) 177(2.75,14.7) 178(2.25,14.7) 179(1.75,14.7) 180(1.25,14.7) 181(0.75,14.7) 182(0.25,14.7) 183(-0.25,14.7) 184(-0.75,14.7) 185(-1.25,14.7) 186(-1.75,14.7) 187(-2.25,14.7) 188(-2.75,14.7) 189(-3.25,14.7) 190(-3.75,14.7) 191(-4.25,14.7) 192(-4.75,14.7) 193(-5.25,14.7) 194(-5.75,14.7) 195(-6.25,14.7) 196(-6.75,14.7) 197(-7.25,14.7) 198(-7.75,14.7) 199(-8.25,14.7) 200(-8.75,14.7) 201(-9.25,14.7) 202(-9.75,14.7) 203(-10.25,14.7) 204(-10.75,14.7) 205(-11.25,14.7) 206(-11.75,14.7) 207(-12.25,14.7) 208(-12.75,14.7)
Top Overlay:
  circle w0.6: c-12.3,12.3 r0.3
  circle w0.25: c-14.7,13.45 r0.125
  lines w0.2: -13.3,-13.3 13.3,-13.3 13.3,13.3 -13.3,13.3 -13.3,-13.3
Mechanical 13:
  drawing of 213 lines, arcs and shapes, not listed
  text ".Designator" at -3.525,1.975 h2
Mechanical 15:
  lines w0.1: -0.5,0 0.5,0 ; 0,-0.5 0,0.5 ; -15.925,-15.925 15.925,-15.925 15.925,15.925 -15.925,15.925 -15.925,-15.925
3D body: height 1.6, standoff 0.25, extent -14,-14 14,14

## LQFP-100_L [mm] "Thin QFP, 100-Leads, Body 14x14mm, Pitch 0.5mm, IPC High Density"
height 1.6
pads (100):
  oval 1.55x0.25 smd: 1(-7.525,6) 2(-7.525,5.5) 3(-7.525,5) 4(-7.525,4.5) 5(-7.525,4) 6(-7.525,3.5) 7(-7.525,3) 8(-7.525,2.5) 9(-7.525,2) 10(-7.525,1.5) 11(-7.525,1) 12(-7.525,0.5) 13(-7.525,0) 14(-7.525,-0.5) 15(-7.525,-1) 16(-7.525,-1.5) 17(-7.525,-2) 18(-7.525,-2.5) 19(-7.525,-3) 20(-7.525,-3.5) 21(-7.525,-4) 22(-7.525,-4.5) 23(-7.525,-5) 24(-7.525,-5.5) 25(-7.525,-6) 51(7.525,-6) 52(7.525,-5.5) 53(7.525,-5) 54(7.525,-4.5) 55(7.525,-4) 56(7.525,-3.5) 57(7.525,-3) 58(7.525,-2.5) 59(7.525,-2) 60(7.525,-1.5) 61(7.525,-1) 62(7.525,-0.5) 63(7.525,0) 64(7.525,0.5) 65(7.525,1) 66(7.525,1.5) 67(7.525,2) 68(7.525,2.5) 69(7.525,3) 70(7.525,3.5) 71(7.525,4) 72(7.525,4.5) 73(7.525,5) 74(7.525,5.5) 75(7.525,6)
  oval 0.25x1.55 smd: 26(-6,-7.525) 27(-5.5,-7.525) 28(-5,-7.525) 29(-4.5,-7.525) 30(-4,-7.525) 31(-3.5,-7.525) 32(-3,-7.525) 33(-2.5,-7.525) 34(-2,-7.525) 35(-1.5,-7.525) 36(-1,-7.525) 37(-0.5,-7.525) 38(0,-7.525) 39(0.5,-7.525) 40(1,-7.525) 41(1.5,-7.525) 42(2,-7.525) 43(2.5,-7.525) 44(3,-7.525) 45(3.5,-7.525) 46(4,-7.525) 47(4.5,-7.525) 48(5,-7.525) 49(5.5,-7.525) 50(6,-7.525) 76(6,7.525) 77(5.5,7.525) 78(5,7.525) 79(4.5,7.525) 80(4,7.525) 81(3.5,7.525) 82(3,7.525) 83(2.5,7.525) 84(2,7.525) 85(1.5,7.525) 86(1,7.525) 87(0.5,7.525) 88(0,7.525) 89(-0.5,7.525) 90(-1,7.525) 91(-1.5,7.525) 92(-2,7.525) 93(-2.5,7.525) 94(-3,7.525) 95(-3.5,7.525) 96(-4,7.525) 97(-4.5,7.525) 98(-5,7.525) 99(-5.5,7.525) 100(-6,7.525)
Top Overlay:
  circle w0.6: c-5.35,5.35 r0.3
  circle w0.25: c-7.525,6.675 r0.125
  lines w0.2: -6.35,-6.35 6.35,-6.35 6.35,6.35 -6.35,6.35 -6.35,-6.35
Mechanical 13:
  circle w0.1: c-6.1,6.1 r0.5
  lines w0.1: -7,-7 7,-7 7,7 -7,7 -7,-7
Mechanical 15:
  lines w0.1: -0.5,0 0.5,0 ; 0,-0.5 0,0.5 ; -8.4,-8.4 8.4,-8.4 8.4,8.4 -8.4,8.4 -8.4,-8.4
3D body: height 1.6, standoff 0, extent -7,-7 7,7

## LQFP-100_N [mm] "Thin QFP, 100-Leads, Body 14x14mm, Pitch 0.5mm, IPC Medium Density"
height 1.6
pads (100):
  oval 1.8x0.3 smd: 1(-7.55,6) 2(-7.55,5.5) 3(-7.55,5) 4(-7.55,4.5) 5(-7.55,4) 6(-7.55,3.5) 7(-7.55,3) 8(-7.55,2.5) 9(-7.55,2) 10(-7.55,1.5) 11(-7.55,1) 12(-7.55,0.5) 13(-7.55,0) 14(-7.55,-0.5) 15(-7.55,-1) 16(-7.55,-1.5) 17(-7.55,-2) 18(-7.55,-2.5) 19(-7.55,-3) 20(-7.55,-3.5) 21(-7.55,-4) 22(-7.55,-4.5) 23(-7.55,-5) 24(-7.55,-5.5) 25(-7.55,-6) 51(7.55,-6) 52(7.55,-5.5) 53(7.55,-5) 54(7.55,-4.5) 55(7.55,-4) 56(7.55,-3.5) 57(7.55,-3) 58(7.55,-2.5) 59(7.55,-2) 60(7.55,-1.5) 61(7.55,-1) 62(7.55,-0.5) 63(7.55,0) 64(7.55,0.5) 65(7.55,1) 66(7.55,1.5) 67(7.55,2) 68(7.55,2.5) 69(7.55,3) 70(7.55,3.5) 71(7.55,4) 72(7.55,4.5) 73(7.55,5) 74(7.55,5.5) 75(7.55,6)
  oval 0.3x1.8 smd: 26(-6,-7.55) 27(-5.5,-7.55) 28(-5,-7.55) 29(-4.5,-7.55) 30(-4,-7.55) 31(-3.5,-7.55) 32(-3,-7.55) 33(-2.5,-7.55) 34(-2,-7.55) 35(-1.5,-7.55) 36(-1,-7.55) 37(-0.5,-7.55) 38(0,-7.55) 39(0.5,-7.55) 40(1,-7.55) 41(1.5,-7.55) 42(2,-7.55) 43(2.5,-7.55) 44(3,-7.55) 45(3.5,-7.55) 46(4,-7.55) 47(4.5,-7.55) 48(5,-7.55) 49(5.5,-7.55) 50(6,-7.55) 76(6,7.55) 77(5.5,7.55) 78(5,7.55) 79(4.5,7.55) 80(4,7.55) 81(3.5,7.55) 82(3,7.55) 83(2.5,7.55) 84(2,7.55) 85(1.5,7.55) 86(1,7.55) 87(0.5,7.55) 88(0,7.55) 89(-0.5,7.55) 90(-1,7.55) 91(-1.5,7.55) 92(-2,7.55) 93(-2.5,7.55) 94(-3,7.55) 95(-3.5,7.55) 96(-4,7.55) 97(-4.5,7.55) 98(-5,7.55) 99(-5.5,7.55) 100(-6,7.55)
Top Overlay:
  circle w0.25: c-7.55,6.7 r0.125
  circle w0.6: c-5.25,5.25 r0.3
  lines w0.2: -6.25,-6.25 -6.25,6.25 6.25,6.25 6.25,-6.25 -6.25,-6.25
Mechanical 13:
  circle w0.1: c-6.1,6.1 r0.5
  lines w0.1: -7,-7 -7,7 7,7 7,-7 -7,-7
Mechanical 15:
  lines w0.1: -0.5,0 0.5,0 ; 0,-0.5 0,0.5 ; -8.7,-8.7 -8.7,8.7 8.7,8.7 8.7,-8.7 -8.7,-8.7
3D body: height 1.6, standoff 0, extent -7,-7 7,7

## MSOP10 [mm]
height 1.65
pads (10):
  oval 1.55x0.25 smd: 1(-2.1,1) 2(-2.1,0.5) 3(-2.1,0) 4(-2.1,-0.5) 5(-2.1,-1) 6(2.1,-1) 7(2.1,-0.5) 8(2.1,0) 9(2.1,0.5) 10(2.1,1)
Top Overlay:
  circle w0.254: c-2.127,1.65 r0.127
  lines w0.2: -1,-1.475 -1,-1.6 1,-1.6 1,-1.475 ; -1,1.475 -1,1.6 1,1.6 1,1.475
Mechanical 13:
  circle w0.254: c-1.05,1.1 r0.2
  lines w0.254: -2.5,-1 -1.6,-1 ; -2.5,-0.5 -1.6,-0.5 ; -2.5,0 -1.6,0 ; -2.5,0.5 -1.6,0.5 ; -2.5,1 -1.6,1 ; 1.6,-1 2.5,-1 ; 1.6,-0.5 2.5,-0.5 ; 1.6,0 2.5,0 ; 1.6,0.5 2.5,0.5 ; 1.6,1 2.5,1 ; -1.6,-1.6 -1.6,1.6 1.6,1.6 1.6,-1.6 -1.6,-1.6
  text ".Designator" at -1.725,2.525 h2
Mechanical 15:
  lines w0.102: -0.25,0 0.25,0 ; 0,-0.275 0,0.275 ; -3.025,-1.6 -3.025,1.625 3.025,1.625 3.025,-1.6 -3.025,-1.6
3D body: height 1.1, standoff 0, extent -1.6,-1.6 1.6,1.6

## MSOP10-PP [mm]
height 1.65
pads (11):
  oval 1.55x0.25 smd: 1(-2.1,1) 2(-2.1,0.5) 3(-2.1,0) 4(-2.1,-0.5) 5(-2.1,-1) 6(2.1,-1) 7(2.1,-0.5) 8(2.1,0) 9(2.1,0.5) 10(2.1,1)
  rect 1.6x1.9 smd: 11(0,0)
Top Overlay:
  circle w0.254: c-2.127,1.65 r0.127
  lines w0.2: -1,-1.475 -1,-1.6 1,-1.6 1,-1.475 ; -1,1.475 -1,1.6 1,1.6 1,1.475
Mechanical 15:
  lines w0.102: -0.25,0 0.25,0 ; 0,-0.275 0,0.275 ; -3.025,-1.6 -3.025,1.625 3.025,1.625 3.025,-1.6 -3.025,-1.6
3D body: height 1.1, standoff 0, extent -1.6,-1.6 1.6,1.6